# EAGLE library part 2.2"TFT (library gael)
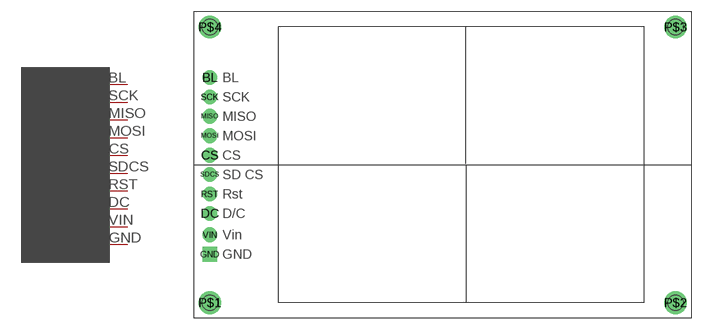
[diagram p2: symbol with the pads of 2.2"TFT; footprint 2.2"TFT]

Designator prefix -

## 2.2"TFT2_2TFT  [2.2"TFT]
BL  LED
CS  CS
DC  DC
GND  GND  pwr
MISO  MISO
MOSI  MOSI
RST  RST
SCK  SCK
SDCS  SD_CS
VIN  VCC  pwr

## Footprint 2.2"TFT (pad centres in mm)
drill 1.1 pad 1.93: BL -33.528,11.43; CS -33.528,1.27; DC -33.528,-6.35; MISO -33.528,6.35; MOSI -33.528,3.81; RST -33.528,-3.81; SCK -33.528,8.89; SDCS -33.528,-1.27; VIN -33.528,-9.144
drill 1.1 pad 1.93 square: GND -33.528,-11.684
drill 2: P$1 -33.528,-18.034; P$2 27.432,-18.034; P$3 27.432,18.034; P$4 -33.528,18.034
hole 2 at -33.528,18.034
hole 2 at -33.528,-18.034
hole 2 at 27.432,-18.034
hole 2 at 27.432,18.034